# Altium footprint library CON TFM-120-02.PcbLib: 1 footprints
Each footprint in its own frame and in the unit in brackets; x right, y up, seen from the top. Pads: shape width x height; smd on the part's side, far side on the other; paste and mask are expansions set on the pad; w line width, h text height; cw(c..) or ccw(c..) is an arc to the next point about the centre after c.
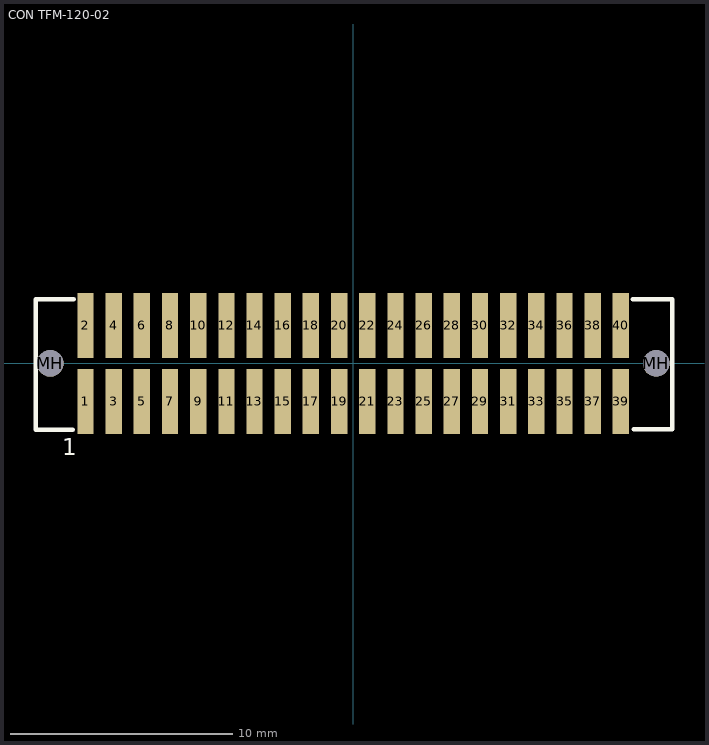
[diagram p0: the footprint, top view; thin cyan lines are the x and y axes]

## CON TFM-120-02 [mil] "Samtec TFM-120-02 Surface Mount Connector"
pads (42):
  rect 29x115 smd: 1(-474.94,-67.53) 2(-474.94,67.47) 3(-424.94,-67.53) 4(-424.94,67.47) 5(-374.94,-67.53) 6(-374.94,67.47) 7(-324.94,-67.53) 8(-324.94,67.47) 9(-274.94,-67.53) 10(-274.94,67.47) 11(-224.79,-67.47) 12(-224.79,67.47) 13(-175.06,-67.47) 14(-175.06,67.47) 15(-124.86,-67.47) 16(-124.86,67.47) 17(-74.94,-67.53) 18(-74.94,67.47) 19(-24.94,-67.53) 20(-24.94,67.47) 21(25.06,-67.53) 22(25.06,67.47) 23(75.06,-67.53) 24(75.06,67.47) 25(125.06,-67.53) 26(125.06,67.47) 27(175.21,-67.47) 28(175.21,67.47) 29(224.94,-67.47) 30(224.94,67.47) 31(274.94,-67.47) 32(274.94,67.53) 33(324.94,-67.47) 34(324.94,67.53) 35(374.94,-67.47) 36(374.94,67.53) 37(425.08,-67.4) 38(425.08,67.53) 39(474.81,-67.4) 40(474.81,67.53)
  round 47 hole 47 unplated: MH(-537.44,-0.03) MH(537.44,0.03)
TopOverlay:
  lines w8: -497.6,-117.53 -562.94,-117.53 -562.94,-83.25 -562.94,113.47 -495.79,113.47 ; 496.13,113.53 565.94,113.53 565.94,-116.47 497.95,-116.47
  text "1" at -515.94,-162.53 h30
3D body: height 220.6, standoff -44.4, extent -562.5,-115 562.5,115